# Altium integrated library Analog Devices Data Converters Digital-to-Analog Converters.IntLib: 2231 symbols (part 54 of 181)
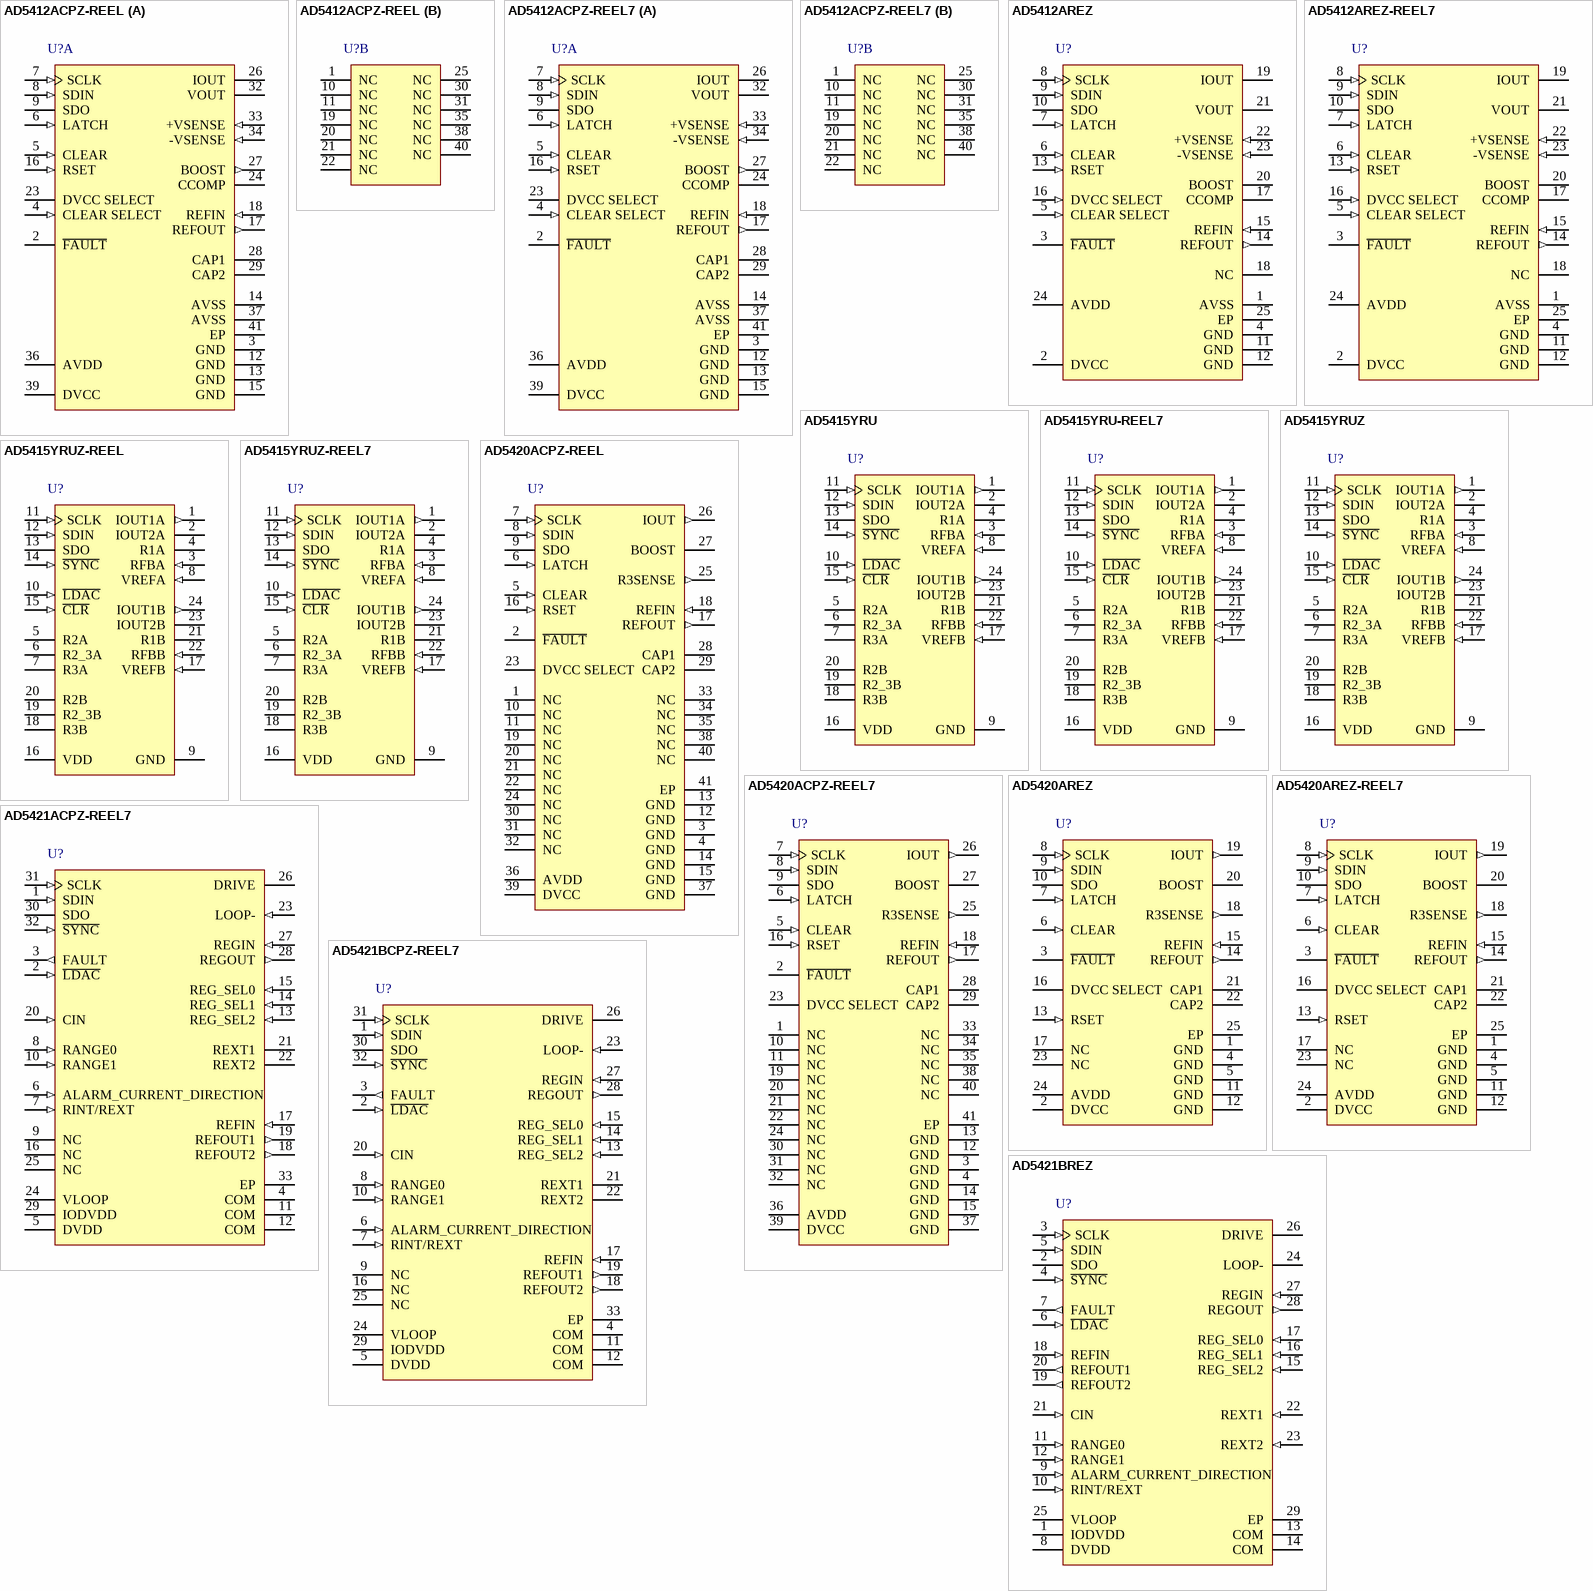
[diagram p167: symbols AD5412ACPZ-REEL to AD5421BREZ]

## AD5415YRU
designator U?
Dual 12-Bit High Bandwidth Multiplying Digital-to-Analog Converter, -40 to +125 degC, RU-24, Tube; Generic Part Number: AD5415; Manufacturer: Analog Devices; PartNumber: AD5415YRU; # DAC Outputs: 2; Max V+: 5.5V; Op Pwr Diss: 3.5µW; Resolution (Bits): 12; Settling Time: 120ns; Single Supply: Yes; DatasheetVersion: Rev. D; PackageVersion: 2002; PackageReference: RU-24; PackageDescription: 24-Lead Thin Shrink Small Outline Package [TSSOP]; Supplier 1: Digi-Key; Supplier Part Number 1: AD5415YRU-ND; Supplier 2: Mouser; Supplier Part Number 2: 584-AD5415YRU; Packing: Tube; RoHS: N; Mounting Technology: Surface Mount; Code_JEDEC: MO-153-AD; ComponentLink1Description: Manufacturer URL; ComponentLink1URL: http://www.analog.com/en/index.html; ComponentLink2Description: Datasheet; ComponentLink2URL: http://www.analog.com/static/imported-files/data_sheets/AD5415.pdf; ComponentLink3Description: Package Specification; ComponentLink3URL: http://www.analog.com/static/imported-files/packages/380523655245964505593671154107510036154RU24.pdf; ComponentLink4Description: Product URL; ComponentLink4URL: http://www.analog.com/en/digital-to-analog-converters/da-converters/ad5415/products/product.html
footprint RU-24_N (TSOP, 24-Leads, Body 7.8x4.4mm, Pitch 0.65mm, IPC Medium Density)
footprint RU-24_L (TSOP, 24-Leads, Body 7.8x4.4mm, Pitch 0.65mm, IPC High Density)
footprint RU-24_M (TSOP, 24-Leads, Body 7.8x4.4mm, Pitch 0.65mm, IPC Low Density)
pins: 1 IOUT1A (out) "DAC A Current Output.", 2 IOUT2A "DAC A Analog Ground. This pin should normally be tied to the analog ground of the system, but can be biased to achieve single-supply operation.", 3 RFBA (in) "DAC Feedback Resistor Pin. This pin establishes voltage output for the DAC by connecting to an external amplifier output.", 4 R1A "DAC A 4-Quadrant Resistors. These pins allow a number of configuration modes, including bipolar operation, with minimum external components.", 5 R2A "DAC A 4-Quadrant Resistors. These pins allow a number of configuration modes, including bipolar operation, with minimum external components.", 6 R2_3A "DAC A 4-Quadrant Resistors. These pins allow a number of configuration modes, including bipolar operation, with minimum external components.", 7 R3A "DAC A 4-Quadrant Resistors. These pins allow a number of configuration modes, including bipolar operation, with minimum external components.", 8 VREFA (in) "DAC A Reference Voltage Input Pin.", 9 GND (power) "Ground Pin.", 10 ~{LDAC} (in) "Load DAC Input. This pin allows asynchronous or synchronous updates to the DAC output. The DAC is asynchronously updated when this signal goes low. Alternatively, if this line is held permanently low, an automatic or (See Datasheet)", 11 SCLK (in) "Serial Clock Input. By default, data is clocked into the input shift register on the falling edge of the serial clock input. Alternatively, by means of the serial control bits, the device can be configured such that data is (See Datasheet)", 12 SDIN (in) "Serial Data Input. Data is clocked into the 16-bit input register on the active edge of the serial clock input. By default, on power-up data is clocked into the shift register on the falling edge of SCLK. The control bits (See Datasheet)", 13 SDO (oc) "Serial Data Output. This pin allows a number of parts to be daisy-chained. By default, data is clocked into the shift register on the falling edge and clocked out via SDO on the rising edge of SCLK. Data is always clocked (See Datasheet)", 14 ~{SYNC} (in) "Active Low Control Input. This pin provides the frame synchronization signal for the input data. When S\Y\N\C\ goes low, it powers on the SCLK and SDIN buffers, and the input shift register is enabled. Data is loaded into (See Datasheet)", 15 ~{CLR} (in) "Active Low Control Input. This pin clears the DAC output, input, and DAC registers. Configuration mode allows the user to enable the hardware C\L\R\ pin as a clear to zero scale or midscale as required.", 16 VDD (power) "Positive Power Supply Input. This part can be operated from a supply of 2.5 V to 5.5 V.", 17 VREFB (in) "DAC B Reference Voltage Input Pin.", 18 R3B "DAC B 4-Quadrant Resistors. These pins allow a number of configuration modes, including bipolar operation, with a minimum of external components.", 19 R2_3B "DAC B 4-Quadrant Resistors. These pins allow a number of configuration modes, including bipolar operation, with a minimum of external components.", 20 R2B "DAC B 4-Quadrant Resistors. These pins allow a number of configuration modes, including bipolar operation, with a minimum of external components.", 21 R1B "DAC B 4-Quadrant Resistors. These pins allow a number of configuration modes, including bipolar operation, with a minimum of external components.", 22 RFBB (in) "DAC B Feedback Resistor Pin. This pin establishes voltage output for the DAC by connecting to the external amplifier output.", 23 IOUT2B "DAC B Analog Ground. This pin should normally be tied to the analog ground of the system, but can be biased to achieve single-supply operation.", 24 IOUT1B (out) "DAC B Current Output."

## AD5415YRU-REEL7
designator U?
Dual 12-Bit High Bandwidth Multiplying Digital-to-Analog Converter, -40 to +125 degC, RU-24, Reel; Generic Part Number: AD5415; Manufacturer: Analog Devices; PartNumber: AD5415YRU-REEL7; # DAC Outputs: 2; Max V+: 5.5V; Op Pwr Diss: 3.5µW; Resolution (Bits): 12; Settling Time: 120ns; Single Supply: Yes; DatasheetVersion: Rev. D; PackageVersion: 2002; PackageReference: RU-24; PackageDescription: 24-Lead Thin Shrink Small Outline Package [TSSOP]; Supplier 1: Digi-Key; Supplier Part Number 1: AD5415YRU-REEL7TR-ND; Supplier 2: Mouser; Supplier Part Number 2: 584-AD5415YRU-R7; Packing: Reel; RoHS: N; Mounting Technology: Surface Mount; Code_JEDEC: MO-153-AD; ComponentLink1Description: Manufacturer URL; ComponentLink1URL: http://www.analog.com/en/index.html; ComponentLink2Description: Datasheet; ComponentLink2URL: http://www.analog.com/static/imported-files/data_sheets/AD5415.pdf; ComponentLink3Description: Package Specification; ComponentLink3URL: http://www.analog.com/static/imported-files/packages/380523655245964505593671154107510036154RU24.pdf; ComponentLink4Description: Product URL; ComponentLink4URL: http://www.analog.com/en/digital-to-analog-converters/da-converters/ad5415/products/product.html
footprint RU-24_N (TSOP, 24-Leads, Body 7.8x4.4mm, Pitch 0.65mm, IPC Medium Density)
footprint RU-24_L (TSOP, 24-Leads, Body 7.8x4.4mm, Pitch 0.65mm, IPC High Density)
footprint RU-24_M (TSOP, 24-Leads, Body 7.8x4.4mm, Pitch 0.65mm, IPC Low Density)
pins: 1 IOUT1A (out) "DAC A Current Output.", 2 IOUT2A "DAC A Analog Ground. This pin should normally be tied to the analog ground of the system, but can be biased to achieve single-supply operation.", 3 RFBA (in) "DAC Feedback Resistor Pin. This pin establishes voltage output for the DAC by connecting to an external amplifier output.", 4 R1A "DAC A 4-Quadrant Resistors. These pins allow a number of configuration modes, including bipolar operation, with minimum external components.", 5 R2A "DAC A 4-Quadrant Resistors. These pins allow a number of configuration modes, including bipolar operation, with minimum external components.", 6 R2_3A "DAC A 4-Quadrant Resistors. These pins allow a number of configuration modes, including bipolar operation, with minimum external components.", 7 R3A "DAC A 4-Quadrant Resistors. These pins allow a number of configuration modes, including bipolar operation, with minimum external components.", 8 VREFA (in) "DAC A Reference Voltage Input Pin.", 9 GND (power) "Ground Pin.", 10 ~{LDAC} (in) "Load DAC Input. This pin allows asynchronous or synchronous updates to the DAC output. The DAC is asynchronously updated when this signal goes low. Alternatively, if this line is held permanently low, an automatic or (See Datasheet)", 11 SCLK (in) "Serial Clock Input. By default, data is clocked into the input shift register on the falling edge of the serial clock input. Alternatively, by means of the serial control bits, the device can be configured such that data is (See Datasheet)", 12 SDIN (in) "Serial Data Input. Data is clocked into the 16-bit input register on the active edge of the serial clock input. By default, on power-up data is clocked into the shift register on the falling edge of SCLK. The control bits (See Datasheet)", 13 SDO (oc) "Serial Data Output. This pin allows a number of parts to be daisy-chained. By default, data is clocked into the shift register on the falling edge and clocked out via SDO on the rising edge of SCLK. Data is always clocked (See Datasheet)", 14 ~{SYNC} (in) "Active Low Control Input. This pin provides the frame synchronization signal for the input data. When S\Y\N\C\ goes low, it powers on the SCLK and SDIN buffers, and the input shift register is enabled. Data is loaded into (See Datasheet)", 15 ~{CLR} (in) "Active Low Control Input. This pin clears the DAC output, input, and DAC registers. Configuration mode allows the user to enable the hardware C\L\R\ pin as a clear to zero scale or midscale as required.", 16 VDD (power) "Positive Power Supply Input. This part can be operated from a supply of 2.5 V to 5.5 V.", 17 VREFB (in) "DAC B Reference Voltage Input Pin.", 18 R3B "DAC B 4-Quadrant Resistors. These pins allow a number of configuration modes, including bipolar operation, with a minimum of external components.", 19 R2_3B "DAC B 4-Quadrant Resistors. These pins allow a number of configuration modes, including bipolar operation, with a minimum of external components.", 20 R2B "DAC B 4-Quadrant Resistors. These pins allow a number of configuration modes, including bipolar operation, with a minimum of external components.", 21 R1B "DAC B 4-Quadrant Resistors. These pins allow a number of configuration modes, including bipolar operation, with a minimum of external components.", 22 RFBB (in) "DAC B Feedback Resistor Pin. This pin establishes voltage output for the DAC by connecting to the external amplifier output.", 23 IOUT2B "DAC B Analog Ground. This pin should normally be tied to the analog ground of the system, but can be biased to achieve single-supply operation.", 24 IOUT1B (out) "DAC B Current Output."

## AD5415YRUZ
designator U?
Dual 12-Bit High Bandwidth Multiplying Digital-to-Analog Converter, -40 to +125 degC, RU-24, Pb-Free, Tube; Generic Part Number: AD5415; Manufacturer: Analog Devices; PartNumber: AD5415YRUZ; # DAC Outputs: 2; Max V+: 5.5V; Op Pwr Diss: 3.5µW; Resolution (Bits): 12; Settling Time: 120ns; Single Supply: Yes; DatasheetVersion: Rev. D; PackageVersion: 2002; PackageReference: RU-24; PackageDescription: 24-Lead Thin Shrink Small Outline Package [TSSOP]; Supplier 1: Digi-Key; Supplier Part Number 1: AD5415YRUZ-ND; Supplier 2: Newark; Supplier Part Number 2: 59K4105; Supplier 3: Mouser; Supplier Part Number 3: 584-AD5415YRUZ; Packing: Tube; RoHS: Y; Mounting Technology: Surface Mount; Code_JEDEC: MO-153-AD; ComponentLink1Description: Manufacturer URL; ComponentLink1URL: http://www.analog.com/en/index.html; ComponentLink2Description: Datasheet; ComponentLink2URL: http://www.analog.com/static/imported-files/data_sheets/AD5415.pdf; ComponentLink3Description: Package Specification; ComponentLink3URL: http://www.analog.com/static/imported-files/packages/380523655245964505593671154107510036154RU24.pdf; ComponentLink4Description: Product URL; ComponentLink4URL: http://www.analog.com/en/digital-to-analog-converters/da-converters/ad5415/products/product.html
footprint RU-24_N (TSOP, 24-Leads, Body 7.8x4.4mm, Pitch 0.65mm, IPC Medium Density)
footprint RU-24_L (TSOP, 24-Leads, Body 7.8x4.4mm, Pitch 0.65mm, IPC High Density)
footprint RU-24_M (TSOP, 24-Leads, Body 7.8x4.4mm, Pitch 0.65mm, IPC Low Density)
pins: 1 IOUT1A (out) "DAC A Current Output.", 2 IOUT2A "DAC A Analog Ground. This pin should normally be tied to the analog ground of the system, but can be biased to achieve single-supply operation.", 3 RFBA (in) "DAC Feedback Resistor Pin. This pin establishes voltage output for the DAC by connecting to an external amplifier output.", 4 R1A "DAC A 4-Quadrant Resistors. These pins allow a number of configuration modes, including bipolar operation, with minimum external components.", 5 R2A "DAC A 4-Quadrant Resistors. These pins allow a number of configuration modes, including bipolar operation, with minimum external components.", 6 R2_3A "DAC A 4-Quadrant Resistors. These pins allow a number of configuration modes, including bipolar operation, with minimum external components.", 7 R3A "DAC A 4-Quadrant Resistors. These pins allow a number of configuration modes, including bipolar operation, with minimum external components.", 8 VREFA (in) "DAC A Reference Voltage Input Pin.", 9 GND (power) "Ground Pin.", 10 ~{LDAC} (in) "Load DAC Input. This pin allows asynchronous or synchronous updates to the DAC output. The DAC is asynchronously updated when this signal goes low. Alternatively, if this line is held permanently low, an automatic or (See Datasheet)", 11 SCLK (in) "Serial Clock Input. By default, data is clocked into the input shift register on the falling edge of the serial clock input. Alternatively, by means of the serial control bits, the device can be configured such that data is (See Datasheet)", 12 SDIN (in) "Serial Data Input. Data is clocked into the 16-bit input register on the active edge of the serial clock input. By default, on power-up data is clocked into the shift register on the falling edge of SCLK. The control bits (See Datasheet)", 13 SDO (oc) "Serial Data Output. This pin allows a number of parts to be daisy-chained. By default, data is clocked into the shift register on the falling edge and clocked out via SDO on the rising edge of SCLK. Data is always clocked (See Datasheet)", 14 ~{SYNC} (in) "Active Low Control Input. This pin provides the frame synchronization signal for the input data. When S\Y\N\C\ goes low, it powers on the SCLK and SDIN buffers, and the input shift register is enabled. Data is loaded into (See Datasheet)", 15 ~{CLR} (in) "Active Low Control Input. This pin clears the DAC output, input, and DAC registers. Configuration mode allows the user to enable the hardware C\L\R\ pin as a clear to zero scale or midscale as required.", 16 VDD (power) "Positive Power Supply Input. This part can be operated from a supply of 2.5 V to 5.5 V.", 17 VREFB (in) "DAC B Reference Voltage Input Pin.", 18 R3B "DAC B 4-Quadrant Resistors. These pins allow a number of configuration modes, including bipolar operation, with a minimum of external components.", 19 R2_3B "DAC B 4-Quadrant Resistors. These pins allow a number of configuration modes, including bipolar operation, with a minimum of external components.", 20 R2B "DAC B 4-Quadrant Resistors. These pins allow a number of configuration modes, including bipolar operation, with a minimum of external components.", 21 R1B "DAC B 4-Quadrant Resistors. These pins allow a number of configuration modes, including bipolar operation, with a minimum of external components.", 22 RFBB (in) "DAC B Feedback Resistor Pin. This pin establishes voltage output for the DAC by connecting to the external amplifier output.", 23 IOUT2B "DAC B Analog Ground. This pin should normally be tied to the analog ground of the system, but can be biased to achieve single-supply operation.", 24 IOUT1B (out) "DAC B Current Output."

## AD5415YRUZ-REEL
designator U?
Dual 12-Bit High Bandwidth Multiplying Digital-to-Analog Converter, -40 to +125 degC, RU-24, Pb-Free, Reel; Generic Part Number: AD5415; Manufacturer: Analog Devices; PartNumber: AD5415YRUZ-REEL; # DAC Outputs: 2; Max V+: 5.5V; Op Pwr Diss: 3.5µW; Resolution (Bits): 12; Settling Time: 120ns; Single Supply: Yes; DatasheetVersion: Rev. D; PackageVersion: 2002; PackageReference: RU-24; PackageDescription: 24-Lead Thin Shrink Small Outline Package [TSSOP]; Supplier 1: Digi-Key; Supplier Part Number 1: AD5415YRUZ-REEL-ND; Supplier 2: Mouser; Supplier Part Number 2: 584-AD5415YRUZ-R; Packing: Reel; RoHS: Y; Mounting Technology: Surface Mount; Code_JEDEC: MO-153-AD; ComponentLink1Description: Manufacturer URL; ComponentLink1URL: http://www.analog.com/en/index.html; ComponentLink2Description: Datasheet; ComponentLink2URL: http://www.analog.com/static/imported-files/data_sheets/AD5415.pdf; ComponentLink3Description: Package Specification; ComponentLink3URL: http://www.analog.com/static/imported-files/packages/380523655245964505593671154107510036154RU24.pdf; ComponentLink4Description: Product URL; ComponentLink4URL: http://www.analog.com/en/digital-to-analog-converters/da-converters/ad5415/products/product.html
footprint RU-24_N (TSOP, 24-Leads, Body 7.8x4.4mm, Pitch 0.65mm, IPC Medium Density)
footprint RU-24_L (TSOP, 24-Leads, Body 7.8x4.4mm, Pitch 0.65mm, IPC High Density)
footprint RU-24_M (TSOP, 24-Leads, Body 7.8x4.4mm, Pitch 0.65mm, IPC Low Density)
pins: 1 IOUT1A (out) "DAC A Current Output.", 2 IOUT2A "DAC A Analog Ground. This pin should normally be tied to the analog ground of the system, but can be biased to achieve single-supply operation.", 3 RFBA (in) "DAC Feedback Resistor Pin. This pin establishes voltage output for the DAC by connecting to an external amplifier output.", 4 R1A "DAC A 4-Quadrant Resistors. These pins allow a number of configuration modes, including bipolar operation, with minimum external components.", 5 R2A "DAC A 4-Quadrant Resistors. These pins allow a number of configuration modes, including bipolar operation, with minimum external components.", 6 R2_3A "DAC A 4-Quadrant Resistors. These pins allow a number of configuration modes, including bipolar operation, with minimum external components.", 7 R3A "DAC A 4-Quadrant Resistors. These pins allow a number of configuration modes, including bipolar operation, with minimum external components.", 8 VREFA (in) "DAC A Reference Voltage Input Pin.", 9 GND (power) "Ground Pin.", 10 ~{LDAC} (in) "Load DAC Input. This pin allows asynchronous or synchronous updates to the DAC output. The DAC is asynchronously updated when this signal goes low. Alternatively, if this line is held permanently low, an automatic or (See Datasheet)", 11 SCLK (in) "Serial Clock Input. By default, data is clocked into the input shift register on the falling edge of the serial clock input. Alternatively, by means of the serial control bits, the device can be configured such that data is (See Datasheet)", 12 SDIN (in) "Serial Data Input. Data is clocked into the 16-bit input register on the active edge of the serial clock input. By default, on power-up data is clocked into the shift register on the falling edge of SCLK. The control bits (See Datasheet)", 13 SDO (oc) "Serial Data Output. This pin allows a number of parts to be daisy-chained. By default, data is clocked into the shift register on the falling edge and clocked out via SDO on the rising edge of SCLK. Data is always clocked (See Datasheet)", 14 ~{SYNC} (in) "Active Low Control Input. This pin provides the frame synchronization signal for the input data. When S\Y\N\C\ goes low, it powers on the SCLK and SDIN buffers, and the input shift register is enabled. Data is loaded into (See Datasheet)", 15 ~{CLR} (in) "Active Low Control Input. This pin clears the DAC output, input, and DAC registers. Configuration mode allows the user to enable the hardware C\L\R\ pin as a clear to zero scale or midscale as required.", 16 VDD (power) "Positive Power Supply Input. This part can be operated from a supply of 2.5 V to 5.5 V.", 17 VREFB (in) "DAC B Reference Voltage Input Pin.", 18 R3B "DAC B 4-Quadrant Resistors. These pins allow a number of configuration modes, including bipolar operation, with a minimum of external components.", 19 R2_3B "DAC B 4-Quadrant Resistors. These pins allow a number of configuration modes, including bipolar operation, with a minimum of external components.", 20 R2B "DAC B 4-Quadrant Resistors. These pins allow a number of configuration modes, including bipolar operation, with a minimum of external components.", 21 R1B "DAC B 4-Quadrant Resistors. These pins allow a number of configuration modes, including bipolar operation, with a minimum of external components.", 22 RFBB (in) "DAC B Feedback Resistor Pin. This pin establishes voltage output for the DAC by connecting to the external amplifier output.", 23 IOUT2B "DAC B Analog Ground. This pin should normally be tied to the analog ground of the system, but can be biased to achieve single-supply operation.", 24 IOUT1B (out) "DAC B Current Output."

## AD5415YRUZ-REEL7
designator U?
Dual 12-Bit High Bandwidth Multiplying Digital-to-Analog Converter, -40 to +125 degC, RU-24, Pb-Free, Reel; Generic Part Number: AD5415; Manufacturer: Analog Devices; PartNumber: AD5415YRUZ-REEL7; # DAC Outputs: 2; Max V+: 5.5V; Op Pwr Diss: 3.5µW; Resolution (Bits): 12; Settling Time: 120ns; Single Supply: Yes; DatasheetVersion: Rev. D; PackageVersion: 2002; PackageReference: RU-24; PackageDescription: 24-Lead Thin Shrink Small Outline Package [TSSOP]; Supplier 1: Digi-Key; Supplier Part Number 1: AD5415YRUZ-REEL7-ND; Supplier 2: Mouser; Supplier Part Number 2: 584-AD5415YRUZ-R7; Packing: Reel; RoHS: Y; Mounting Technology: Surface Mount; Code_JEDEC: MO-153-AD; ComponentLink1Description: Manufacturer URL; ComponentLink1URL: http://www.analog.com/en/index.html; ComponentLink2Description: Datasheet; ComponentLink2URL: http://www.analog.com/static/imported-files/data_sheets/AD5415.pdf; ComponentLink3Description: Package Specification; ComponentLink3URL: http://www.analog.com/static/imported-files/packages/380523655245964505593671154107510036154RU24.pdf; ComponentLink4Description: Product URL; ComponentLink4URL: http://www.analog.com/en/digital-to-analog-converters/da-converters/ad5415/products/product.html
footprint RU-24_N (TSOP, 24-Leads, Body 7.8x4.4mm, Pitch 0.65mm, IPC Medium Density)
footprint RU-24_L (TSOP, 24-Leads, Body 7.8x4.4mm, Pitch 0.65mm, IPC High Density)
footprint RU-24_M (TSOP, 24-Leads, Body 7.8x4.4mm, Pitch 0.65mm, IPC Low Density)
pins: 1 IOUT1A (out) "DAC A Current Output.", 2 IOUT2A "DAC A Analog Ground. This pin should normally be tied to the analog ground of the system, but can be biased to achieve single-supply operation.", 3 RFBA (in) "DAC Feedback Resistor Pin. This pin establishes voltage output for the DAC by connecting to an external amplifier output.", 4 R1A "DAC A 4-Quadrant Resistors. These pins allow a number of configuration modes, including bipolar operation, with minimum external components.", 5 R2A "DAC A 4-Quadrant Resistors. These pins allow a number of configuration modes, including bipolar operation, with minimum external components.", 6 R2_3A "DAC A 4-Quadrant Resistors. These pins allow a number of configuration modes, including bipolar operation, with minimum external components.", 7 R3A "DAC A 4-Quadrant Resistors. These pins allow a number of configuration modes, including bipolar operation, with minimum external components.", 8 VREFA (in) "DAC A Reference Voltage Input Pin.", 9 GND (power) "Ground Pin.", 10 ~{LDAC} (in) "Load DAC Input. This pin allows asynchronous or synchronous updates to the DAC output. The DAC is asynchronously updated when this signal goes low. Alternatively, if this line is held permanently low, an automatic or (See Datasheet)", 11 SCLK (in) "Serial Clock Input. By default, data is clocked into the input shift register on the falling edge of the serial clock input. Alternatively, by means of the serial control bits, the device can be configured such that data is (See Datasheet)", 12 SDIN (in) "Serial Data Input. Data is clocked into the 16-bit input register on the active edge of the serial clock input. By default, on power-up data is clocked into the shift register on the falling edge of SCLK. The control bits (See Datasheet)", 13 SDO (oc) "Serial Data Output. This pin allows a number of parts to be daisy-chained. By default, data is clocked into the shift register on the falling edge and clocked out via SDO on the rising edge of SCLK. Data is always clocked (See Datasheet)", 14 ~{SYNC} (in) "Active Low Control Input. This pin provides the frame synchronization signal for the input data. When S\Y\N\C\ goes low, it powers on the SCLK and SDIN buffers, and the input shift register is enabled. Data is loaded into (See Datasheet)", 15 ~{CLR} (in) "Active Low Control Input. This pin clears the DAC output, input, and DAC registers. Configuration mode allows the user to enable the hardware C\L\R\ pin as a clear to zero scale or midscale as required.", 16 VDD (power) "Positive Power Supply Input. This part can be operated from a supply of 2.5 V to 5.5 V.", 17 VREFB (in) "DAC B Reference Voltage Input Pin.", 18 R3B "DAC B 4-Quadrant Resistors. These pins allow a number of configuration modes, including bipolar operation, with a minimum of external components.", 19 R2_3B "DAC B 4-Quadrant Resistors. These pins allow a number of configuration modes, including bipolar operation, with a minimum of external components.", 20 R2B "DAC B 4-Quadrant Resistors. These pins allow a number of configuration modes, including bipolar operation, with a minimum of external components.", 21 R1B "DAC B 4-Quadrant Resistors. These pins allow a number of configuration modes, including bipolar operation, with a minimum of external components.", 22 RFBB (in) "DAC B Feedback Resistor Pin. This pin establishes voltage output for the DAC by connecting to the external amplifier output.", 23 IOUT2B "DAC B Analog Ground. This pin should normally be tied to the analog ground of the system, but can be biased to achieve single-supply operation.", 24 IOUT1B (out) "DAC B Current Output."

## AD5420ACPZ-REEL
designator U?
Single 16-Bit Current Source Digital-to-Analog Converter with Serial Interface and HART Connectivity, 4 to 20 mA, -40 to +85 degC, CP-40-1, Pb-Free, Reel; Generic Part Number: AD5420; Manufacturer: Analog Devices; PartNumber: AD5420ACPZ-REEL; # DAC Outputs: 1; Max V+: 60V; Resolution (Bits): 16; DatasheetVersion: Rev.D; PackageVersion: Oct-2006; PackageReference: CP-40-1; PackageDescription: 40-Pin Lead Frame Chip Scale Package [LFCSP_VQ] Very Thin Quad; Supplier 1: Digi-Key; Supplier Part Number 1: AD5420ACPZ-REELTR-ND; Supplier 2: Digi-Key; Supplier Part Number 2: AD5420ACPZ-REELCT-ND; Supplier 3: Digi-Key; Supplier Part Number 3: AD5420ACPZ-REELDKR-ND; Supplier 4: Mouser; Supplier Part Number 4: 584-AD5420ACPZ-R; Packing: Reel; RoHS: Y; Mounting Technology: Surface Mount; Code_JEDEC: MO-220-VJJD-2; ComponentLink1Description: Manufacturer URL; ComponentLink1URL: http://www.analog.com/en/index.html; ComponentLink2Description: Datasheet; ComponentLink2URL: http://www.analog.com/static/imported-files/data_sheets/AD5410_5420.pdf; ComponentLink3Description: Package Specification; ComponentLink3URL: http://www.analog.com/static/imported-files/packages/PKG_PDF/LFCSP(CP)/CP_40_1.pdf; ComponentLink4Description: Product URL; ComponentLink4URL: http://www.analog.com/en/digital-to-analog-converters/da-converters/ad5420/products/product.html; ComponentLink5Description: Reference Design URL; ComponentLink5URL: http://www.analog.com/en/digital-to-analog-converters/da-converters/ad5420/products/product.html#prod_cross_sell
footprint CP-40-1_N (QFN, 40-Leads, Body 6x6mm, Pitch 0.5mm, Thermal Pad 4.3x4.3mm, IPC Medium Density)
footprint CP-40-1_L (QFN, 40-Leads, Body 6x6mm, Pitch 0.5mm, Thermal Pad 4.3x4.3mm, IPC High Density)
footprint CP-40-1_M (QFN, 40-Leads, Body 6x6mm, Pitch 0.5mm, Thermal Pad 4.3x4.3mm, IPC Low Density)
pins: 1 NC "Do not connect to these pins.", 2 ~{FAULT} (oc) "Fault Alert. This pin is asserted low when an open circuit is detected between IOUT and GND or an overtemperature is detected. The F\A\U\L\T\  pin is an open-drain output and must be connected to DVCC through a pull-up (See Datasheet)", 3 GND (power) "These pins must be connected to ground.", 4 GND (power) "These pins must be connected to ground.", 5 CLEAR (in) "Active High Input. Asserting this pin sets the output current to the zero-scale value,which is either 0 mA or 4 mA, depending on the output range programmed, that is, 0 mA to 20 mA, 0 mA to 24 mA, or 4 mA to 20 mA.", 6 LATCH (in) "Positive Edge Sensitive Latch. A rising edge parallel loads the input shift register data into the relevant register. In the case of the data register, the output current is also updated.", 7 SCLK (in) "Serial Clock Input. Data is clocked into the input shift register on the rising edge of SCLK. This operates at clock speeds of up to 30 MHz.", 8 SDIN (in) "Serial Data Input. Data must be valid on the rising edge of SCLK.", 9 SDO (hiz) "Serial Data Output. This pin is used to clock data from the device in daisy-chain or readback mode. Data is clocked out on the falling edge of SCLK. See Figure 3 and Figure 4.", 10 NC "Do not connect to these pins.", 11 NC "Do not connect to these pins.", 12 GND (power) "Ground Reference Pin.", 13 GND (power) "Ground Reference Pin.", 14 GND (power) "These pins must be connected to ground.", 15 GND (power) "These pins must be connected to ground.", 16 RSET (in) "An external, precision, low drift 15 k ohm current setting resistor can be connected to this pin to improve the overall performance of the device. See the Specifications and AD5420 Features sections.", 17 REFOUT (out) "Internal Reference Voltage Output. VREFOUT = 5 V+/- 5 mV at TA = 25 degC. Typical temperature drift is 1.8 ppm/degC.", 18 REFIN (in) "External Reference Voltage Input. VREFIN = 5 V +/- 50 mV for specified performance.", 19 NC "Do not connect to these pins.", 20 NC "Do not connect to these pins.", 21 NC "Do not connect to these pins.", 22 NC "Do not connect to these pins.", 23 DVCC SELECT "This pin, when connected to GND, disables the internal supply, and an external supply must be connected to the DVCC pin. Leave this pin unconnected to enable the internal supply. See the AD5420 Features section.", 24 NC "Do not connect to these pins.", 25 R3SENSE (out) "The voltage measured between this pin and the BOOST pin is directly proportional to the output current and can be used as a monitor/feedback feature. This should be used as a voltage sense output only; current should not be (See Datasheet)", 26 IOUT (out) "Current Output Pin.", 27 BOOST "Optional External Transistor Connection. Connecting an external transistor reduces the power dissipated in the AD5420. See the AD5420 Features section.", 28 CAP1 "Connection for Optional Output Filtering Capacitor. See the AD5420 Features section.", 29 CAP2 "Connection for Optional Output Filtering Capacitor. See the AD5420 Features section.Also HART Input Connection, see Device Features Section.", 30 NC "Do not connect to these pins.", 31 NC "Do not connect to these pins.", 32 NC "Do not connect to these pins.", 33 NC "Do not connect to these pins.", 34 NC "Do not connect to these pins.", 35 NC "Do not connect to these pins.", 36 AVDD (power) "Positive Analog Supply Pin. Voltage ranges from 10.8 V to 40 V.", 37 GND (power) "These pins must be connected to ground.", 38 NC "Do not connect to these pins.", 39 DVCC (power) "Digital Supply Pin. Voltage ranges from 2.7 V to 5.5 V.", 40 NC "Do not connect to these pins.", 41 EP (power) "Ground Reference Connection. It is recommended that the exposed pad be thermally connected to a copper plane for enhanced thermal performance."

## AD5420ACPZ-REEL7
designator U?
Single 16-Bit Current Source Digital-to-Analog Converter with Serial Interface and HART Connectivity, 4 to 20 mA, -40 to +85 degC, CP-40-1, Pb-Free, Reel; Generic Part Number: AD5420; Manufacturer: Analog Devices; PartNumber: AD5420ACPZ-REEL7; # DAC Outputs: 1; Max V+: 60V; Resolution (Bits): 16; DatasheetVersion: Rev.D; PackageVersion: Oct-2006; PackageReference: CP-40-1; PackageDescription: 40-Pin Lead Frame Chip Scale Package [LFCSP_VQ] Very Thin Quad; Supplier 1: Digi-Key; Supplier Part Number 1: AD5420ACPZ-REEL7TR-ND; Supplier 2: Digi-Key; Supplier Part Number 2: AD5420ACPZ-REEL7CT-ND; Supplier 3: Digi-Key; Supplier Part Number 3: AD5420ACPZ-REEL7DKR-ND; Supplier 4: Mouser; Supplier Part Number 4: 584-AD5420ACPZ-R7; Packing: Reel; RoHS: Y; Mounting Technology: Surface Mount; Code_JEDEC: MO-220-VJJD-2; ComponentLink1Description: Manufacturer URL; ComponentLink1URL: http://www.analog.com/en/index.html; ComponentLink2Description: Datasheet; ComponentLink2URL: http://www.analog.com/static/imported-files/data_sheets/AD5410_5420.pdf; ComponentLink3Description: Package Specification; ComponentLink3URL: http://www.analog.com/static/imported-files/packages/PKG_PDF/LFCSP(CP)/CP_40_1.pdf; ComponentLink4Description: Product URL; ComponentLink4URL: http://www.analog.com/en/digital-to-analog-converters/da-converters/ad5420/products/product.html; ComponentLink5Description: Reference Design URL; ComponentLink5URL: http://www.analog.com/en/digital-to-analog-converters/da-converters/ad5420/products/product.html#prod_cross_sell
footprint CP-40-1_N (QFN, 40-Leads, Body 6x6mm, Pitch 0.5mm, Thermal Pad 4.3x4.3mm, IPC Medium Density)
footprint CP-40-1_L (QFN, 40-Leads, Body 6x6mm, Pitch 0.5mm, Thermal Pad 4.3x4.3mm, IPC High Density)
footprint CP-40-1_M (QFN, 40-Leads, Body 6x6mm, Pitch 0.5mm, Thermal Pad 4.3x4.3mm, IPC Low Density)
pins: 1 NC "Do not connect to these pins.", 2 ~{FAULT} (oc) "Fault Alert. This pin is asserted low when an open circuit is detected between IOUT and GND or an overtemperature is detected. The F\A\U\L\T\  pin is an open-drain output and must be connected to DVCC through a pull-up (See Datasheet)", 3 GND (power) "These pins must be connected to ground.", 4 GND (power) "These pins must be connected to ground.", 5 CLEAR (in) "Active High Input. Asserting this pin sets the output current to the zero-scale value,which is either 0 mA or 4 mA, depending on the output range programmed, that is, 0 mA to 20 mA, 0 mA to 24 mA, or 4 mA to 20 mA.", 6 LATCH (in) "Positive Edge Sensitive Latch. A rising edge parallel loads the input shift register data into the relevant register. In the case of the data register, the output current is also updated.", 7 SCLK (in) "Serial Clock Input. Data is clocked into the input shift register on the rising edge of SCLK. This operates at clock speeds of up to 30 MHz.", 8 SDIN (in) "Serial Data Input. Data must be valid on the rising edge of SCLK.", 9 SDO (hiz) "Serial Data Output. This pin is used to clock data from the device in daisy-chain or readback mode. Data is clocked out on the falling edge of SCLK. See Figure 3 and Figure 4.", 10 NC "Do not connect to these pins.", 11 NC "Do not connect to these pins.", 12 GND (power) "Ground Reference Pin.", 13 GND (power) "Ground Reference Pin.", 14 GND (power) "These pins must be connected to ground.", 15 GND (power) "These pins must be connected to ground.", 16 RSET (in) "An external, precision, low drift 15 k ohm current setting resistor can be connected to this pin to improve the overall performance of the device. See the Specifications and AD5420 Features sections.", 17 REFOUT (out) "Internal Reference Voltage Output. VREFOUT = 5 V+/- 5 mV at TA = 25 degC. Typical temperature drift is 1.8 ppm/degC.", 18 REFIN (in) "External Reference Voltage Input. VREFIN = 5 V +/- 50 mV for specified performance.", 19 NC "Do not connect to these pins.", 20 NC "Do not connect to these pins.", 21 NC "Do not connect to these pins.", 22 NC "Do not connect to these pins.", 23 DVCC SELECT "This pin, when connected to GND, disables the internal supply, and an external supply must be connected to the DVCC pin. Leave this pin unconnected to enable the internal supply. See the AD5420 Features section.", 24 NC "Do not connect to these pins.", 25 R3SENSE (out) "The voltage measured between this pin and the BOOST pin is directly proportional to the output current and can be used as a monitor/feedback feature. This should be used as a voltage sense output only; current should not be (See Datasheet)", 26 IOUT (out) "Current Output Pin.", 27 BOOST "Optional External Transistor Connection. Connecting an external transistor reduces the power dissipated in the AD5420. See the AD5420 Features section.", 28 CAP1 "Connection for Optional Output Filtering Capacitor. See the AD5420 Features section.", 29 CAP2 "Connection for Optional Output Filtering Capacitor. See the AD5420 Features section.Also HART Input Connection, see Device Features Section.", 30 NC "Do not connect to these pins.", 31 NC "Do not connect to these pins.", 32 NC "Do not connect to these pins.", 33 NC "Do not connect to these pins.", 34 NC "Do not connect to these pins.", 35 NC "Do not connect to these pins.", 36 AVDD (power) "Positive Analog Supply Pin. Voltage ranges from 10.8 V to 40 V.", 37 GND (power) "These pins must be connected to ground.", 38 NC "Do not connect to these pins.", 39 DVCC (power) "Digital Supply Pin. Voltage ranges from 2.7 V to 5.5 V.", 40 NC "Do not connect to these pins.", 41 EP (power) "Ground Reference Connection. It is recommended that the exposed pad be thermally connected to a copper plane for enhanced thermal performance."

## AD5420AREZ
designator U?
Single 16-Bit Current Source Digital-to-Analog Converter with Serial Interface and HART Connectivity, 4 to 20 mA, -40 to +85 degC, RE-24, Pb-Free, Tube; Generic Part Number: AD5420; Manufacturer: Analog Devices; PartNumber: AD5420AREZ; # DAC Outputs: 1; Max V+: 60V; Resolution (Bits): 16; DatasheetVersion: Rev.D; PackageVersion: 050806-A; PackageReference: RE-24; PackageDescription: 24-Lead Thin Shrink Small Outline Package, Exposed Pad [TSSOP_EP]; Supplier 1: Digi-Key; Supplier Part Number 1: AD5420AREZ-ND; Supplier 2: Farnell; Supplier Part Number 2: 1827276; Supplier 3: Newark; Supplier Part Number 3: 05R6577; Supplier 4: Mouser; Supplier Part Number 4: 584-AD5420AREZ; Packing: Tube; RoHS: Y; Mounting Technology: Surface Mount; Code_JEDEC: MO-153-ADT; ComponentLink1Description: Manufacturer URL; ComponentLink1URL: http://www.analog.com/en/index.html; ComponentLink2Description: Datasheet; ComponentLink2URL: http://www.analog.com/static/imported-files/data_sheets/AD5410_5420.pdf; ComponentLink3Description: Package Specification; ComponentLink3URL: http://www.analog.com/static/imported-files/packages/PKG_PDF/TSSOP_EP(RE)/RE_24.pdf; ComponentLink4Description: Product URL; ComponentLink4URL: http://www.analog.com/en/digital-to-analog-converters/da-converters/ad5420/products/product.html; ComponentLink5Description: Reference Design URL; ComponentLink5URL: http://www.analog.com/en/digital-to-analog-converters/da-converters/ad5420/products/product.html#prod_cross_sell
footprint RE-24_N (TSOP, 24-Leads, Body 7.8x4.4mm, Pitch 0.65mm, Thermal pad 5.02x3.25 mm, IPC Medium Density)
footprint RE-24_L (TSOP, 24-Leads, Body 7.8x4.4mm, Pitch 0.65mm, Thermal pad 5.02x3.25 mm, IPC High Density)
footprint RE-24_M (TSOP, 24-Leads, Body 7.8x4.4mm, Pitch 0.65mm, Thermal pad 5.02x3.25 mm, IPC Low Density)
pins: 1 GND (power) "These pins must be connected to ground.", 2 DVCC (power) "Digital Supply Pin. Voltage ranges from 2.7 V to 5.5 V.", 3 ~{FAULT} (oc) "Fault Alert. This pin is asserted low when an open circuit is detected between IOUT and GND or an overtemperature is detected. The F\A\U\L\T\ pin is an open-drain output and must be connected to DVCC through a pull-up (See Datasheet)", 4 GND (power) "These pins must be connected to ground.", 5 GND (power) "These pins must be connected to ground.", 6 CLEAR (in) "Active High Input. Asserting this pin sets the output current to the zero-scale value, which is either 0 mA or 4 mA, depending on the output range programmed, that is, 0 mA to 20 mA, 0 mA to 24 mA, or 4 mA to 20 mA.", 7 LATCH (in) "Positive Edge Sensitive Latch. A rising edge parallel loads the input shift register data into the relevant register. In the case of the data register, the output current is also updated.", 8 SCLK (in) "Serial Clock Input. Data is clocked into the input shift register on the rising edge of SCLK. This operates at clock speeds of up to 30 MHz.", 9 SDIN (in) "Serial Data Input. Data must be valid on the rising edge of SCLK.", 10 SDO (hiz) "Serial Data Output. This pin is used to clock data from the device in daisy-chain or readback mode. Data is clocked out on the falling edge of SCLK. See Figure 3 and Figure 4.", 11 GND (power) "Ground Reference Pin.", 12 GND (power) "These pins must be connected to ground.", 13 RSET (in) "An external, precision, low drift 15 k ohm current setting resistor can be connected to this pin to improve the overall performance of the device. See the Specifications and AD5420 Features sections.", 14 REFOUT (out) "Internal Reference Voltage Output. VREFOUT = 5 V +/- 5 mV at TA = 25degC. Typical temperature drift is 1.8 ppm/degC.", 15 REFIN (in) "External Reference Voltage Input. VREFIN = 5 V +/- 50 mV for specified performance.", 16 DVCC SELECT "This pin, when connected to GND, disables the internal supply, and an external supply must be connected to the DVCC pin. Leave this pin unconnected to enable the internal supply. See the AD5420 Features section.", 17 NC "Do not connect to these pins.", 18 R3SENSE (out) "The voltage measured between this pin and the BOOST pin is directly proportional to the output current and can be used as a monitor/feedback feature. This should be used as a voltage sense output only; current should not be (See Datasheet)", 19 IOUT (out) "Current Output Pin.", 20 BOOST "Optional External Transistor Connection. Connecting an external transistor reduces the power dissipated in the AD5420. See the AD5420 Features section.", 21 CAP1 "Connection for Optional Output Filtering Capacitor. See the AD5420 Features section.", 22 CAP2 "Connection for Optional Output Filtering Capacitor. See the AD5420 Features section. Also HART Input Connection, see Device Features Section.", 23 NC "Do not connect to these pins.", 24 AVDD (power) "Positive Analog Supply Pin. Voltage ranges from 10.8 V to 40 V.", 25 EP (power) "Ground Reference Connection. It is recommended that the exposed pad be thermally connected to a copper plane for enhanced thermal performance."

## AD5420AREZ-REEL7
designator U?
Single 16-Bit Current Source Digital-to-Analog Converter with Serial Interface and HART Connectivity, 4 to 20 mA, -40 to +85 degC, RE-24, Pb-Free, Reel; Generic Part Number: AD5420; Manufacturer: Analog Devices; PartNumber: AD5420AREZ-REEL7; # DAC Outputs: 1; Max V+: 60V; Resolution (Bits): 16; DatasheetVersion: Rev.D; PackageVersion: 050806-A; PackageReference: RE-24; PackageDescription: 24-Lead Thin Shrink Small Outline Package, Exposed Pad [TSSOP_EP]; Supplier 1: Digi-Key; Supplier Part Number 1: AD5420AREZ-REEL7-ND; Supplier 2: Newark; Supplier Part Number 2: 05R6578; Supplier 3: Mouser; Supplier Part Number 3: 584-AD5420AREZ-R7; Packing: Reel; RoHS: Y; Mounting Technology: Surface Mount; Code_JEDEC: MO-153-ADT; ComponentLink1Description: Manufacturer URL; ComponentLink1URL: http://www.analog.com/en/index.html; ComponentLink2Description: Datasheet; ComponentLink2URL: http://www.analog.com/static/imported-files/data_sheets/AD5410_5420.pdf; ComponentLink3Description: Package Specification; ComponentLink3URL: http://www.analog.com/static/imported-files/packages/PKG_PDF/TSSOP_EP(RE)/RE_24.pdf; ComponentLink4Description: Product URL; ComponentLink4URL: http://www.analog.com/en/digital-to-analog-converters/da-converters/ad5420/products/product.html; ComponentLink5Description: Reference Design URL; ComponentLink5URL: http://www.analog.com/en/digital-to-analog-converters/da-converters/ad5420/products/product.html#prod_cross_sell
footprint RE-24_N (TSOP, 24-Leads, Body 7.8x4.4mm, Pitch 0.65mm, Thermal pad 5.02x3.25 mm, IPC Medium Density)
footprint RE-24_L (TSOP, 24-Leads, Body 7.8x4.4mm, Pitch 0.65mm, Thermal pad 5.02x3.25 mm, IPC High Density)
footprint RE-24_M (TSOP, 24-Leads, Body 7.8x4.4mm, Pitch 0.65mm, Thermal pad 5.02x3.25 mm, IPC Low Density)
pins: 1 GND (power) "These pins must be connected to ground.", 2 DVCC (power) "Digital Supply Pin. Voltage ranges from 2.7 V to 5.5 V.", 3 ~{FAULT} (oc) "Fault Alert. This pin is asserted low when an open circuit is detected between IOUT and GND or an overtemperature is detected. The F\A\U\L\T\ pin is an open-drain output and must be connected to DVCC through a pull-up (See Datasheet)", 4 GND (power) "These pins must be connected to ground.", 5 GND (power) "These pins must be connected to ground.", 6 CLEAR (in) "Active High Input. Asserting this pin sets the output current to the zero-scale value, which is either 0 mA or 4 mA, depending on the output range programmed, that is, 0 mA to 20 mA, 0 mA to 24 mA, or 4 mA to 20 mA.", 7 LATCH (in) "Positive Edge Sensitive Latch. A rising edge parallel loads the input shift register data into the relevant register. In the case of the data register, the output current is also updated.", 8 SCLK (in) "Serial Clock Input. Data is clocked into the input shift register on the rising edge of SCLK. This operates at clock speeds of up to 30 MHz.", 9 SDIN (in) "Serial Data Input. Data must be valid on the rising edge of SCLK.", 10 SDO (hiz) "Serial Data Output. This pin is used to clock data from the device in daisy-chain or readback mode. Data is clocked out on the falling edge of SCLK. See Figure 3 and Figure 4.", 11 GND (power) "Ground Reference Pin.", 12 GND (power) "These pins must be connected to ground.", 13 RSET (in) "An external, precision, low drift 15 k ohm current setting resistor can be connected to this pin to improve the overall performance of the device. See the Specifications and AD5420 Features sections.", 14 REFOUT (out) "Internal Reference Voltage Output. VREFOUT = 5 V +/- 5 mV at TA = 25degC. Typical temperature drift is 1.8 ppm/degC.", 15 REFIN (in) "External Reference Voltage Input. VREFIN = 5 V +/- 50 mV for specified performance.", 16 DVCC SELECT "This pin, when connected to GND, disables the internal supply, and an external supply must be connected to the DVCC pin. Leave this pin unconnected to enable the internal supply. See the AD5420 Features section.", 17 NC "Do not connect to these pins.", 18 R3SENSE (out) "The voltage measured between this pin and the BOOST pin is directly proportional to the output current and can be used as a monitor/feedback feature. This should be used as a voltage sense output only; current should not be (See Datasheet)", 19 IOUT (out) "Current Output Pin.", 20 BOOST "Optional External Transistor Connection. Connecting an external transistor reduces the power dissipated in the AD5420. See the AD5420 Features section.", 21 CAP1 "Connection for Optional Output Filtering Capacitor. See the AD5420 Features section.", 22 CAP2 "Connection for Optional Output Filtering Capacitor. See the AD5420 Features section. Also HART Input Connection, see Device Features Section.", 23 NC "Do not connect to these pins.", 24 AVDD (power) "Positive Analog Supply Pin. Voltage ranges from 10.8 V to 40 V.", 25 EP (power) "Ground Reference Connection. It is recommended that the exposed pad be thermally connected to a copper plane for enhanced thermal performance."